# Altium schematic symbol library First_PCB_dip.SchLib: 7 symbols
Pins are listed as number, name and electrical type; pins without a type are passive.

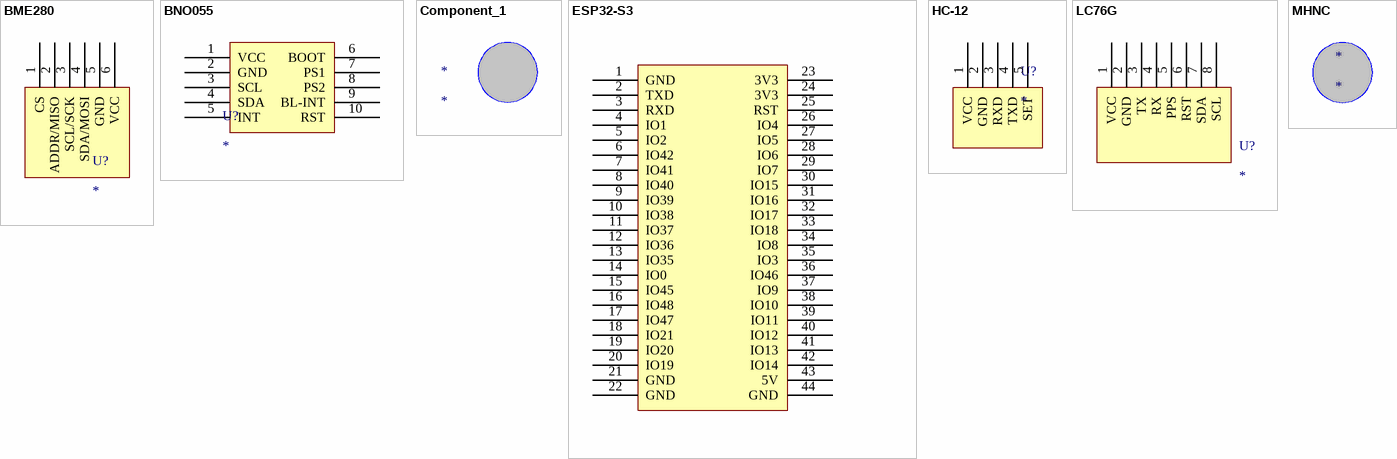
[diagram p0: symbols BME280 to MHNC]

## BME280
designator U?
pins: 1 CS, 2 ADDR/MISO, 3 SCL/SCK, 4 SDA/MOSI, 5 GND, 6 VCC

## BNO055
designator U?
pins: 1 VCC, 2 GND, 3 SCL, 4 SDA, 5 INT, 6 BOOT, 7 PS1, 8 PS2, 9 BL-INT, 10 RST

## Component_1
designator *

## ESP32-S3
designator U?
pins: 1 GND, 2 TXD, 3 RXD, 4 IO1, 5 IO2, 6 IO42, 7 IO41, 8 IO40, 9 IO39, 10 IO38, 11 IO37, 12 IO36, 13 IO35, 14 IO0, 15 IO45, 16 IO48, 17 IO47, 18 IO21, 19 IO20, 20 IO19, 21 GND, 22 GND, 23 3V3, 24 3V3, 25 RST, 26 IO4, 27 IO5, 28 IO6, 29 IO7, 30 IO15, 31 IO16, 32 IO17, 33 IO18, 34 IO8, 35 IO3, 36 IO46, 37 IO9, 38 IO10, 39 IO11, 40 IO12, 41 IO13, 42 IO14, 43 5V, 44 GND

## HC-12
designator U?
pins: 1 VCC, 2 GND, 3 RXD, 4 TXD, 5 SET

## LC76G
designator U?
pins: 1 VCC, 2 GND, 3 TX, 4 RX, 5 PPS, 6 RST, 7 SDA, 8 SCL

## MHNC
designator *
footprint MHNC (Mounting hole no copper)